# Altium integrated library My_library_OpAmp.IntLib: 4 symbols
Pins are listed as number, name and electrical type; pins without a type are passive.

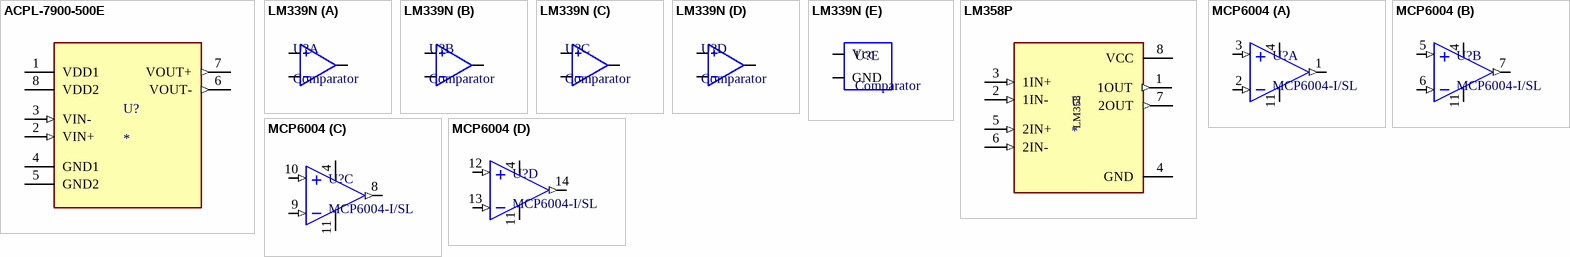
[diagram p0: symbols ACPL-7900-500E to MCP6004]

## ACPL-7900-500E
designator U?
Isolation Amplifier 1 Circuit 8-DIP Gull Wing; MP: ACPL-7900-300E; MF: Broadcom Limited; Package: DIP-8 Broadcom; Mouser-Purchase-URL: https://snapeda.com/shop?store=Mouser&id=2642104; Availability: Warning; Price: None; Value: *; SnapEDA_Link: https://www.snapeda.com/parts/ACPL-7900-300E/Broadcom%20Limited/view-part/2642104/?ref=snap
footprint Option300
footprint PDIP-8
pins: 1 VDD1 (power), 2 VIN+ (in), 3 VIN- (in), 4 GND1, 5 GND2, 6 VOUT- (out), 7 VOUT+ (out), 8 VDD2 (power)

## LM339N
designator U?, comment Comparator
footprint PDIP-14
part A pins: 2 Output 1, 4 Input 1(-), 5 Input 1(+)
part B pins: 1 Output 2, 6 Input 2(-), 7 Input 2(+)
part C pins: 8 Input 3(-), 9 Input 3(+), 14 Output 3
part D pins: 10 Input 4(-), 11 Input 4(+), 13 Output 4
part E pins: 3 Vcc, 12 GND

## LM358P
designator U
Dual Operational Amplifiers; MP: LM358P; MF: Texas Instruments; Package: PDIP-8 Texas Instruments; DigiKey-Purchase-URL: https://snapeda.com/shop?store=DigiKey&id=559457; Arrow_Electronics-Purchase-URL: https://snapeda.com/shop?store=Arrow+Electronics&id=559457; Price: None; Texas_Instruments-Purchase-URL: https://snapeda.com/shop?store=Texas+Instruments&id=559457; Value: *; Availability: Unavailable; SnapEDA_Link: https://www.snapeda.com/parts/LM358P/Texas%20Instruments/view-part/559457/?ref=snap; Mouser-Purchase-URL: https://snapeda.com/shop?store=Mouser&id=559457
footprint PDIP-8
pins: 1 1OUT (out), 2 1IN- (in), 3 1IN+ (in), 4 GND (power), 5 2IN+ (in), 6 2IN- (in), 7 2OUT (out), 8 VCC (power)
text: LM358

## MCP6004
designator U?, comment MCP6004-I/SL
1 MHz, Low-Power Operational Amplifier, 14-Pin SOIC, Industrial Temperature; ComponentLink2Description: Datasheet; Code_JEDEC: MS-012-AB; PackageVersion: revBB, Aug-2009; Code_IPC: SOIC127P600-14; ComponentLink2URL: http://ww1.microchip.com/downloads/en/DeviceDoc/21733j.pdf; ComponentLink1Description: Manufacturer URL; ComponentLink1URL: http://www.microchip.com/; RevisionNote: URLs added.; ComponentLink3URL: http://www.microchip.com/stellent/groups/techpub_sg/documents/packagingspec/en012702.pdf; PackageReference: SOIC-SL14; PackageDescription: 14-Lead Plastic Small Outline (SL) - Narrow, 3.90mm Body [SOIC]; ComponentLink3Description: Package Specification; DatasheetVersion: revJ, Nov-2009
footprint SOIC-SL14_N (SOIC, 14-Leads, Body 8.7x3.9mm, Pitch 1.27mm, IPC Medium Density)
part A pins: 1 VOUTA (out), 2 VINA- (in), 3 VINA+ (in), 4 VDD, 11 VSS
part B pins: 4 VDD, 5 VINB+ (in), 6 VINB- (in), 7 VOUTB (out), 11 VSS
part C pins: 4 VDD (power), 8 VOUTC (out), 9 VINC- (in), 10 VINC+ (in), 11 VSS (power)
part D pins: 4 VDD, 11 VSS, 12 VIND+ (in), 13 VIND- (in), 14 VOUTD (out)